# Altium schematic symbol library Schlib1.SchLib: 1 symbol
Pins are listed as number, name and electrical type; pins without a type are passive.

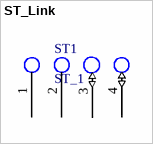
[diagram p0: symbol ST_Link]

## ST_Link
designator ST1, comment ST_1  (no BOM)
Testpoint for ST Link Programmer
pins: 1 GND (power), 2 VCC (power), 3 SWDIO (io), 4 SWCLK (io)